# Altium schematic symbol library 未分类器件.SchLib: 8 symbols
Pins are listed as number, name and electrical type; pins without a type are passive.

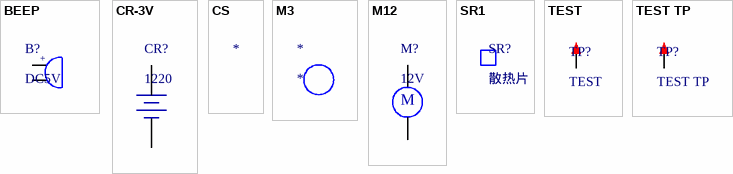
[diagram p0: symbols BEEP to TEST TP]

## BEEP
designator B?, comment DC5V
蜂鸣器; 版权归属: 源创客; BOM名称: 蜂鸣器; 学习资源: www.ooocke.com
footprint BEEP 6.5x12x6 (6.5*12*6mm(脚距,直径,高度))
footprint BEEP 5x9x5.5 (5*9*5.5mm(脚距,直径,高度))
footprint BEEP 6.5x12x8.5 (6.5*12*8.5mm(脚距,直径,高度))
footprint BEEP 7.6X12X7.5 (6.5*12*7.5mm(脚距,直径,高度))
footprint BEEP 7.6X12X9.5 (6.5*12*9.5mm(脚距,直径,高度))
pins: A, K
text: +

## CR-3V
designator CR?, comment 1220
微型电池; 版权归属: 源创客; BOM名称: 微型电池; 学习资源: www.ooocke.com
footprint CR1220_A (纽扣电池座)
footprint CR1220_B (纽扣电池座)
footprint ML621FE (可充电纽扣电池)
pins: DC+, DC-

## CS
designator *
探针焊盘; 版权归属: 源创客; BOM名称: 探针焊盘; 学习资源: www.ooocke.com
footprint R100 (R100探针焊盘)

## M3
designator *
铜柱孔; 版权归属: 源创客; BOM名称: 铜柱孔; 学习资源: www.ooocke.com
footprint M3 140X350 (M3螺丝孔，孔140Mil，焊盘350Mil)
footprint M3 125X300 (M3螺丝孔，孔125Mil，焊盘300Mil)
footprint M3 125X200 (M3螺丝孔，孔125Mil，焊盘200Mil)

## M12
designator M?, comment 12V
直流电机; 版权归属: 源创客; BOM名称: 直流电机; 学习资源: www.ooocke.com
footprint XH2.54-2P (接插件，2P)
pins: 1, 2
text: M

## SR1
designator SR?, comment 散热片
版权归属: 源创客; BOM名称: 散热片; 学习资源: www.ooocke.com
footprint 散热片
footprint HD-1
footprint HD-2
footprint HD-3

## TEST
designator TP?
测试点; 版权归属: 源创客; BOM名称: 测试点; 学习资源: www.ooocke.com
footprint TEST 1 (测试点1mm)
footprint TEST 1.6 (测试点1.6mm)
footprint TEST 1.4 (测试点1.4mm)
footprint TEST 1.8 (测试点1.8mm)
footprint TEST 1.2 (测试点1.2mm)
pins: 1

## TEST TP
designator TP?
测试环; 版权归属: 源创客; BOM名称: 测试环; 学习资源: www.ooocke.com
footprint TEST TP1.4_B (蓝色，测试环)
footprint TEST TP1.4_R (红色，测试环)
footprint TEST TP1.4_G (绿色，测试环)
footprint TEST TP1.4_W (白色，测试环)
footprint TEST TP1.4_Y (黄色，测试环)
footprint TEST TP1.4_BK (黑色，测试环)
pins: 1